# Altium integrated library Linear Technology Power Management System Supervisor, Monitor and Control.IntLib: 1611 symbols (part 40 of 100)
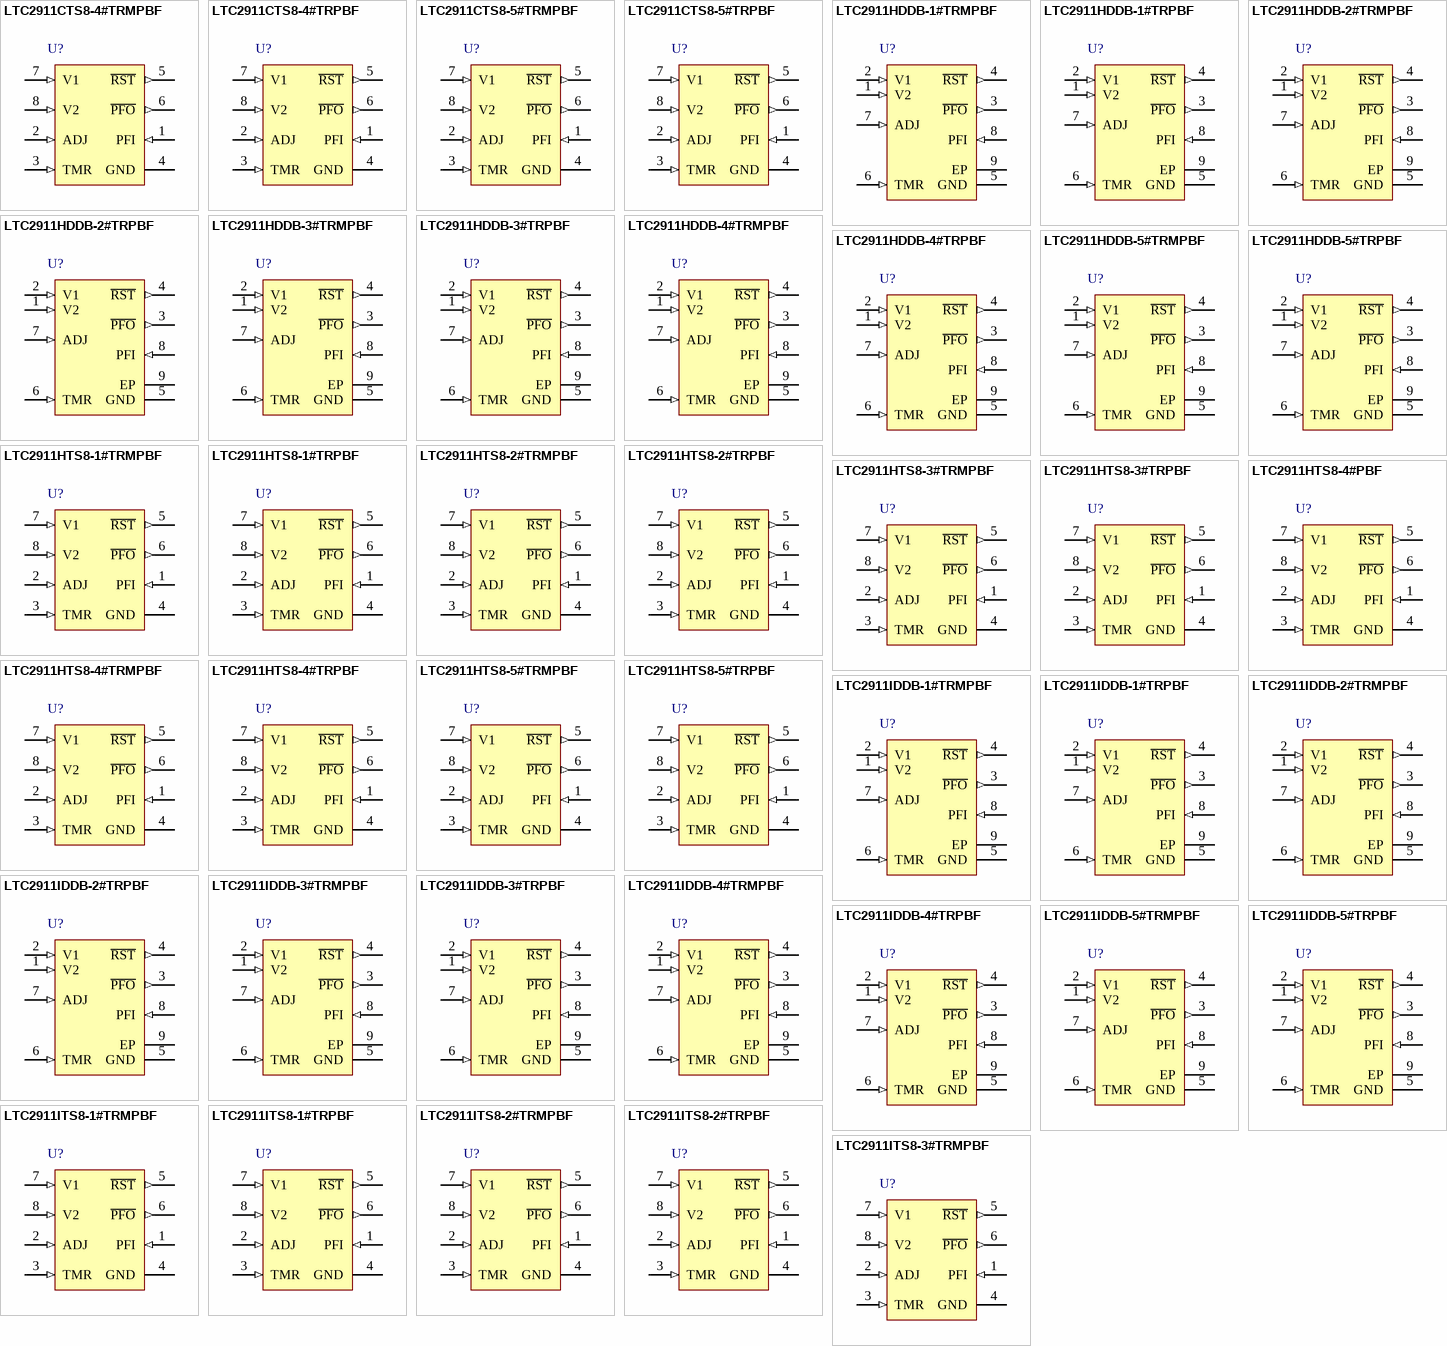
[diagram p84: symbols LTC2911CTS8-4#TRMPBF to LTC2911ITS8-3#TRMPBF]

## LTC2911HTS8-4#TRMPBF
designator U?
Triple Supply Monitor with Power Fail Comparator, 8-pin SOT23 (TS8-8), -40 to 125 degC, Pb-Free, Mini Tape and Reel; Manufacturer: Linear Technology; PartNumber: LTC2911HTS8-4#TRMPBF; Number of Supplies(#): 3; PackageVersion: Rev. A, 08/2010; PackageReference: TS8-8; PackageDescription: 8-Pin Plastic TSOT-23, Body 2.9 x 1.63 mm, Pitch 0.65 mm; Supplier 1: Digi-Key; Supplier Part Number 1: LTC2911HTS8-4#TRMPBF-ND; Packing: Mini Tape and Reel; RoHS: TRUE; Mounting Technology: Surface Mount; Code_JEDEC: MO-193; ComponentLink1Description: Manufacturer URL; ComponentLink1URL: http://www.linear.com/; ComponentLink2Description: Datasheet; ComponentLink2URL: http://cds.linear.com/docs/en/datasheet/2911f.pdf; ComponentLink3Description: Package Specification; ComponentLink3URL: http://cds.linear.com/docs/en/packaging/SOT_8_05-08-1637.pdf
footprint LT-TS8-8-TSOT-23_V (SOT23, 8-Leads, Body 2.9x1.75mm, Pitch 0.65mm)
pins: 1 PFI (in) "Power-Fail Voltage Monitor Input. Input to the powerfail comparator with a 500mV threshold at the falling edge and a 515mV threshold at the rising edge, giving a 3% hysteresis for noise rejection. Tie to V1 or GND if unused.", 2 ADJ (in) "Adjustable Voltage Monitor Input. Input to a voltage monitor comparator with a 0.5V nominal threshold. Tie to V1 if unused.", 3 TMR (in) "Reset Timeout Control. Attach an external capacitor, CTMR, to GND to set a reset timeout period of 9.4ms/nF. A low leakage ceramic capacitor is recommended for timer accuracy. A 2.2nF capacitor generates a 20ms timeout. (See Datasheet)", 4 GND (power) "Device Ground.", 5 ~{RST} (out) "Reset Logic Output. This pin asserts low when any of the V1, V2, or ADJ inputs are below their reset thresholds. Pulls high when all the monitored inputs are above their thresholds for longer than a timeout period. This pin (See Datasheet)", 6 ~{PFO} (out) "Power-Fail Logic Output. This pin asserts low when the PFI input voltage is below its threshold and goes high when the PFI input voltage is above its threshold. This pin provides a weak pull-up current to V1. This current is (See Datasheet)", 7 V1 (in) "3.3V Monitor and Power Supply Input. V1 is an accurate 3.3V, -5% undervoltage supply monitor. The internal VCC is generated from the greater of the voltages at the V1 and V2 inputs for the LTC2911 1/LTC2911?2/LTC2911- (See Datasheet)", 8 V2 (in) "Voltage Monitor and Power Supply Input. V2 is a -5% undervoltage supply monitor for a 5V, 2.5V, 1.8V or 1.2V supply for the LTC2911-1/LTC2911?2/LTC2911- 3/LTC2911?4 options, respectively. Because the internal VCC is (See Datasheet)"

## LTC2911HTS8-4#TRPBF
designator U?
Triple Supply Monitor with Power Fail Comparator, 8-pin SOT23 (TS8-8), -40 to 125 degC, Pb-Free, Tape and Reel; Manufacturer: Linear Technology; PartNumber: LTC2911HTS8-4#TRPBF; Number of Supplies(#): 3; PackageVersion: Rev. A, 08/2010; PackageReference: TS8-8; PackageDescription: 8-Pin Plastic TSOT-23, Body 2.9 x 1.63 mm, Pitch 0.65 mm; Supplier 1: Digi-Key; Supplier Part Number 1: LTC2911HTS8-4#TRPBF-ND; Packing: Tape and Reel; RoHS: TRUE; Mounting Technology: Surface Mount; Code_JEDEC: MO-193; ComponentLink1Description: Manufacturer URL; ComponentLink1URL: http://www.linear.com/; ComponentLink2Description: Datasheet; ComponentLink2URL: http://cds.linear.com/docs/en/datasheet/2911f.pdf; ComponentLink3Description: Package Specification; ComponentLink3URL: http://cds.linear.com/docs/en/packaging/SOT_8_05-08-1637.pdf
footprint LT-TS8-8-TSOT-23_V (SOT23, 8-Leads, Body 2.9x1.75mm, Pitch 0.65mm)
pins: 1 PFI (in) "Power-Fail Voltage Monitor Input. Input to the powerfail comparator with a 500mV threshold at the falling edge and a 515mV threshold at the rising edge, giving a 3% hysteresis for noise rejection. Tie to V1 or GND if unused.", 2 ADJ (in) "Adjustable Voltage Monitor Input. Input to a voltage monitor comparator with a 0.5V nominal threshold. Tie to V1 if unused.", 3 TMR (in) "Reset Timeout Control. Attach an external capacitor, CTMR, to GND to set a reset timeout period of 9.4ms/nF. A low leakage ceramic capacitor is recommended for timer accuracy. A 2.2nF capacitor generates a 20ms timeout. (See Datasheet)", 4 GND (power) "Device Ground.", 5 ~{RST} (out) "Reset Logic Output. This pin asserts low when any of the V1, V2, or ADJ inputs are below their reset thresholds. Pulls high when all the monitored inputs are above their thresholds for longer than a timeout period. This pin (See Datasheet)", 6 ~{PFO} (out) "Power-Fail Logic Output. This pin asserts low when the PFI input voltage is below its threshold and goes high when the PFI input voltage is above its threshold. This pin provides a weak pull-up current to V1. This current is (See Datasheet)", 7 V1 (in) "3.3V Monitor and Power Supply Input. V1 is an accurate 3.3V, -5% undervoltage supply monitor. The internal VCC is generated from the greater of the voltages at the V1 and V2 inputs for the LTC2911 1/LTC2911?2/LTC2911- (See Datasheet)", 8 V2 (in) "Voltage Monitor and Power Supply Input. V2 is a -5% undervoltage supply monitor for a 5V, 2.5V, 1.8V or 1.2V supply for the LTC2911-1/LTC2911?2/LTC2911- 3/LTC2911?4 options, respectively. Because the internal VCC is (See Datasheet)"

## LTC2911HTS8-5#TRMPBF
designator U?
Triple Supply Monitor with Power Fail Comparator, 8-pin SOT23 (TS8-8), -40 to 125 degC, Pb-Free, Mini Tape and Reel; Manufacturer: Linear Technology; PartNumber: LTC2911HTS8-5#TRMPBF; Number of Supplies(#): 3; PackageVersion: Rev. A, 08/2010; PackageReference: TS8-8; PackageDescription: 8-Pin Plastic TSOT-23, Body 2.9 x 1.63 mm, Pitch 0.65 mm; Supplier 1: Digi-Key; Supplier Part Number 1: LTC2911HTS8-5#TRMPBF-ND; Packing: Mini Tape and Reel; RoHS: TRUE; Mounting Technology: Surface Mount; Code_JEDEC: MO-193; ComponentLink1Description: Manufacturer URL; ComponentLink1URL: http://www.linear.com/; ComponentLink2Description: Datasheet; ComponentLink2URL: http://cds.linear.com/docs/en/datasheet/2911f.pdf; ComponentLink3Description: Package Specification; ComponentLink3URL: http://cds.linear.com/docs/en/packaging/SOT_8_05-08-1637.pdf
footprint LT-TS8-8-TSOT-23_V (SOT23, 8-Leads, Body 2.9x1.75mm, Pitch 0.65mm)
pins: 1 PFI (in) "Power-Fail Voltage Monitor Input. Input to the powerfail comparator with a 500mV threshold at the falling edge and a 515mV threshold at the rising edge, giving a 3% hysteresis for noise rejection. Tie to V1 or GND if unused.", 2 ADJ (in) "Adjustable Voltage Monitor Input. Input to a voltage monitor comparator with a 0.5V nominal threshold. Tie to V1 if unused.", 3 TMR (in) "Reset Timeout Control. Attach an external capacitor, CTMR, to GND to set a reset timeout period of 9.4ms/nF. A low leakage ceramic capacitor is recommended for timer accuracy. A 2.2nF capacitor generates a 20ms timeout. (See Datasheet)", 4 GND (power) "Device Ground.", 5 ~{RST} (out) "Reset Logic Output. This pin asserts low when any of the V1, V2, or ADJ inputs are below their reset thresholds. Pulls high when all the monitored inputs are above their thresholds for longer than a timeout period. This pin (See Datasheet)", 6 ~{PFO} (out) "Power-Fail Logic Output. This pin asserts low when the PFI input voltage is below its threshold and goes high when the PFI input voltage is above its threshold. This pin provides a weak pull-up current to V1. This current is (See Datasheet)", 7 V1 (in) "3.3V Monitor and Power Supply Input. V1 is an accurate 3.3V, -5% undervoltage supply monitor. The internal VCC is generated from the greater of the voltages at the V1 and V2 inputs for the LTC2911 1/LTC2911?2/LTC2911- (See Datasheet)", 8 V2 (in) "Voltage Monitor and Power Supply Input. V2 is a -5% undervoltage supply monitor for a 5V, 2.5V, 1.8V or 1.2V supply for the LTC2911-1/LTC2911?2/LTC2911- 3/LTC2911?4 options, respectively. Because the internal VCC is (See Datasheet)"

## LTC2911HTS8-5#TRPBF
designator U?
Triple Supply Monitor with Power Fail Comparator, 8-pin SOT23 (TS8-8), -40 to 125 degC, Pb-Free, Tape and Reel; Manufacturer: Linear Technology; PartNumber: LTC2911HTS8-5#TRPBF; Number of Supplies(#): 3; PackageVersion: Rev. A, 08/2010; PackageReference: TS8-8; PackageDescription: 8-Pin Plastic TSOT-23, Body 2.9 x 1.63 mm, Pitch 0.65 mm; Supplier 1: Digi-Key; Supplier Part Number 1: LTC2911HTS8-5#TRPBF-ND; Packing: Tape and Reel; RoHS: TRUE; Mounting Technology: Surface Mount; Code_JEDEC: MO-193; ComponentLink1Description: Manufacturer URL; ComponentLink1URL: http://www.linear.com/; ComponentLink2Description: Datasheet; ComponentLink2URL: http://cds.linear.com/docs/en/datasheet/2911f.pdf; ComponentLink3Description: Package Specification; ComponentLink3URL: http://cds.linear.com/docs/en/packaging/SOT_8_05-08-1637.pdf
footprint LT-TS8-8-TSOT-23_V (SOT23, 8-Leads, Body 2.9x1.75mm, Pitch 0.65mm)
pins: 1 PFI (in) "Power-Fail Voltage Monitor Input. Input to the powerfail comparator with a 500mV threshold at the falling edge and a 515mV threshold at the rising edge, giving a 3% hysteresis for noise rejection. Tie to V1 or GND if unused.", 2 ADJ (in) "Adjustable Voltage Monitor Input. Input to a voltage monitor comparator with a 0.5V nominal threshold. Tie to V1 if unused.", 3 TMR (in) "Reset Timeout Control. Attach an external capacitor, CTMR, to GND to set a reset timeout period of 9.4ms/nF. A low leakage ceramic capacitor is recommended for timer accuracy. A 2.2nF capacitor generates a 20ms timeout. (See Datasheet)", 4 GND (power) "Device Ground.", 5 ~{RST} (out) "Reset Logic Output. This pin asserts low when any of the V1, V2, or ADJ inputs are below their reset thresholds. Pulls high when all the monitored inputs are above their thresholds for longer than a timeout period. This pin (See Datasheet)", 6 ~{PFO} (out) "Power-Fail Logic Output. This pin asserts low when the PFI input voltage is below its threshold and goes high when the PFI input voltage is above its threshold. This pin provides a weak pull-up current to V1. This current is (See Datasheet)", 7 V1 (in) "3.3V Monitor and Power Supply Input. V1 is an accurate 3.3V, -5% undervoltage supply monitor. The internal VCC is generated from the greater of the voltages at the V1 and V2 inputs for the LTC2911 1/LTC2911?2/LTC2911- (See Datasheet)", 8 V2 (in) "Voltage Monitor and Power Supply Input. V2 is a -5% undervoltage supply monitor for a 5V, 2.5V, 1.8V or 1.2V supply for the LTC2911-1/LTC2911?2/LTC2911- 3/LTC2911?4 options, respectively. Because the internal VCC is (See Datasheet)"

## LTC2911IDDB-1#TRMPBF
designator U?
Triple Supply Monitor with Power Fail Comparator, 8-pin SON (DDB-8), -40 to 85 degC, Pb-Free, Mini Tape and Reel; Manufacturer: Linear Technology; PartNumber: LTC2911IDDB-1#TRMPBF; Number of Supplies(#): 3; PackageVersion: Rev. B, 06/2010; PackageReference: DDB-8; PackageDescription: 8-Pin Plastic DFN, Body 3 x 2 mm, Pitch 0.5 mm; Supplier 1: Digi-Key; Supplier Part Number 1: LTC2911IDDB-1#TRMPBF-ND; Packing: Mini Tape and Reel; RoHS: TRUE; Mounting Technology: Surface Mount; Code_JEDEC: MO-229; ComponentLink1Description: Manufacturer URL; ComponentLink1URL: http://www.linear.com/; ComponentLink2Description: Datasheet; ComponentLink2URL: http://cds.linear.com/docs/en/datasheet/2911f.pdf; ComponentLink3Description: Package Specification; ComponentLink3URL: http://cds.linear.com/docs/en/packaging/DFN_8_05-08-1702.pdf
footprint LT-DDB-8_V (SON, 8-Leads, Body 3x2mm, Pitch 0.5mm, Thermal Pad 2.2x0.61mm)
pins: 1 V2 (in) "Voltage Monitor and Power Supply Input. V2 is a -5% undervoltage supply monitor for a 5V, 2.5V, 1.8V or 1.2V supply for the LTC2911-1/LTC2911-2/LTC2911- 3/LTC2911-4 options, respectively. Because the internal VCC is (See Datasheet)", 2 V1 (in) "3.3V Monitor and Power Supply Input. V1 is an accurate 3.3V, -5% undervoltage supply monitor. The internal VCC is generated from the greater of the voltages at the V1 and V2 inputs for the LTC2911-1/LTC2911-2/LTC2911- (See Datasheet)", 3 ~{PFO} (out) "Power-Fail Logic Output. This pin asserts low when the PFI input voltage is below its threshold and goes high when the PFI input voltage is above its threshold. This pin provides a weak pull-up current to V1. This current is (See Datasheet)", 4 ~{RST} (out) "Reset Logic Output. This pin asserts low when any of the V1, V2, or ADJ inputs are below their reset thresholds. Pulls high when all the monitored inputs are above their thresholds for longer than a timeout period. This pin (See Datasheet)", 5 GND (power) "Device Ground.", 6 TMR (in) "Reset Timeout Control. Attach an external capacitor, CTMR, to GND to set a reset timeout period of 9.4ms/nF. A low leakage ceramic capacitor is recommended for timer accuracy. A 2.2nF capacitor generates a 20ms timeout. (See Datasheet)", 7 ADJ (in) "Adjustable Voltage Monitor Input. Input to a voltage monitor comparator with a 0.5V nominal threshold. Tie to V1 if unused.", 8 PFI (in) "Power-Fail Voltage Monitor Input. Input to the powerfail comparator with a 500mV threshold at the falling edge and a 515mV threshold at the rising edge, giving a 3% hysteresis for noise rejection. Tie to V1 or GND if unused.", 9 EP (power) "Exposed pad may be left open or connected to device ground."

## LTC2911IDDB-1#TRPBF
designator U?
Triple Supply Monitor with Power Fail Comparator, 8-pin SON (DDB-8), -40 to 85 degC, Pb-Free, Tape and Reel; Manufacturer: Linear Technology; PartNumber: LTC2911IDDB-1#TRPBF; Number of Supplies(#): 3; PackageVersion: Rev. B, 06/2010; PackageReference: DDB-8; PackageDescription: 8-Pin Plastic DFN, Body 3 x 2 mm, Pitch 0.5 mm; Supplier 1: Digi-Key; Supplier Part Number 1: LTC2911IDDB-1#TRPBF-ND; Packing: Tape and Reel; RoHS: TRUE; Mounting Technology: Surface Mount; Code_JEDEC: MO-229; ComponentLink1Description: Manufacturer URL; ComponentLink1URL: http://www.linear.com/; ComponentLink2Description: Datasheet; ComponentLink2URL: http://cds.linear.com/docs/en/datasheet/2911f.pdf; ComponentLink3Description: Package Specification; ComponentLink3URL: http://cds.linear.com/docs/en/packaging/DFN_8_05-08-1702.pdf
footprint LT-DDB-8_V (SON, 8-Leads, Body 3x2mm, Pitch 0.5mm, Thermal Pad 2.2x0.61mm)
pins: 1 V2 (in) "Voltage Monitor and Power Supply Input. V2 is a -5% undervoltage supply monitor for a 5V, 2.5V, 1.8V or 1.2V supply for the LTC2911-1/LTC2911-2/LTC2911- 3/LTC2911-4 options, respectively. Because the internal VCC is (See Datasheet)", 2 V1 (in) "3.3V Monitor and Power Supply Input. V1 is an accurate 3.3V, -5% undervoltage supply monitor. The internal VCC is generated from the greater of the voltages at the V1 and V2 inputs for the LTC2911-1/LTC2911-2/LTC2911- (See Datasheet)", 3 ~{PFO} (out) "Power-Fail Logic Output. This pin asserts low when the PFI input voltage is below its threshold and goes high when the PFI input voltage is above its threshold. This pin provides a weak pull-up current to V1. This current is (See Datasheet)", 4 ~{RST} (out) "Reset Logic Output. This pin asserts low when any of the V1, V2, or ADJ inputs are below their reset thresholds. Pulls high when all the monitored inputs are above their thresholds for longer than a timeout period. This pin (See Datasheet)", 5 GND (power) "Device Ground.", 6 TMR (in) "Reset Timeout Control. Attach an external capacitor, CTMR, to GND to set a reset timeout period of 9.4ms/nF. A low leakage ceramic capacitor is recommended for timer accuracy. A 2.2nF capacitor generates a 20ms timeout. (See Datasheet)", 7 ADJ (in) "Adjustable Voltage Monitor Input. Input to a voltage monitor comparator with a 0.5V nominal threshold. Tie to V1 if unused.", 8 PFI (in) "Power-Fail Voltage Monitor Input. Input to the powerfail comparator with a 500mV threshold at the falling edge and a 515mV threshold at the rising edge, giving a 3% hysteresis for noise rejection. Tie to V1 or GND if unused.", 9 EP (power) "Exposed pad may be left open or connected to device ground."

## LTC2911IDDB-2#TRMPBF
designator U?
Triple Supply Monitor with Power Fail Comparator, 8-pin SON (DDB-8), -40 to 85 degC, Pb-Free, Mini Tape and Reel; Manufacturer: Linear Technology; PartNumber: LTC2911IDDB-2#TRMPBF; Number of Supplies(#): 3; PackageVersion: Rev. B, 06/2010; PackageReference: DDB-8; PackageDescription: 8-Pin Plastic DFN, Body 3 x 2 mm, Pitch 0.5 mm; Supplier 1: Digi-Key; Supplier Part Number 1: LTC2911IDDB-2#TRMPBF-ND; Packing: Mini Tape and Reel; RoHS: TRUE; Mounting Technology: Surface Mount; Code_JEDEC: MO-229; ComponentLink1Description: Manufacturer URL; ComponentLink1URL: http://www.linear.com/; ComponentLink2Description: Datasheet; ComponentLink2URL: http://cds.linear.com/docs/en/datasheet/2911f.pdf; ComponentLink3Description: Package Specification; ComponentLink3URL: http://cds.linear.com/docs/en/packaging/DFN_8_05-08-1702.pdf
footprint LT-DDB-8_V (SON, 8-Leads, Body 3x2mm, Pitch 0.5mm, Thermal Pad 2.2x0.61mm)
pins: 1 V2 (in) "Voltage Monitor and Power Supply Input. V2 is a -5% undervoltage supply monitor for a 5V, 2.5V, 1.8V or 1.2V supply for the LTC2911-1/LTC2911-2/LTC2911- 3/LTC2911-4 options, respectively. Because the internal VCC is (See Datasheet)", 2 V1 (in) "3.3V Monitor and Power Supply Input. V1 is an accurate 3.3V, -5% undervoltage supply monitor. The internal VCC is generated from the greater of the voltages at the V1 and V2 inputs for the LTC2911-1/LTC2911-2/LTC2911- (See Datasheet)", 3 ~{PFO} (out) "Power-Fail Logic Output. This pin asserts low when the PFI input voltage is below its threshold and goes high when the PFI input voltage is above its threshold. This pin provides a weak pull-up current to V1. This current is (See Datasheet)", 4 ~{RST} (out) "Reset Logic Output. This pin asserts low when any of the V1, V2, or ADJ inputs are below their reset thresholds. Pulls high when all the monitored inputs are above their thresholds for longer than a timeout period. This pin (See Datasheet)", 5 GND (power) "Device Ground.", 6 TMR (in) "Reset Timeout Control. Attach an external capacitor, CTMR, to GND to set a reset timeout period of 9.4ms/nF. A low leakage ceramic capacitor is recommended for timer accuracy. A 2.2nF capacitor generates a 20ms timeout. (See Datasheet)", 7 ADJ (in) "Adjustable Voltage Monitor Input. Input to a voltage monitor comparator with a 0.5V nominal threshold. Tie to V1 if unused.", 8 PFI (in) "Power-Fail Voltage Monitor Input. Input to the powerfail comparator with a 500mV threshold at the falling edge and a 515mV threshold at the rising edge, giving a 3% hysteresis for noise rejection. Tie to V1 or GND if unused.", 9 EP (power) "Exposed pad may be left open or connected to device ground."

## LTC2911IDDB-2#TRPBF
designator U?
Triple Supply Monitor with Power Fail Comparator, 8-pin SON (DDB-8), -40 to 85 degC, Pb-Free, Tape and Reel; Manufacturer: Linear Technology; PartNumber: LTC2911IDDB-2#TRPBF; Number of Supplies(#): 3; PackageVersion: Rev. B, 06/2010; PackageReference: DDB-8; PackageDescription: 8-Pin Plastic DFN, Body 3 x 2 mm, Pitch 0.5 mm; Supplier 1: Digi-Key; Supplier Part Number 1: LTC2911IDDB-2#TRPBF-ND; Packing: Tape and Reel; RoHS: TRUE; Mounting Technology: Surface Mount; Code_JEDEC: MO-229; ComponentLink1Description: Manufacturer URL; ComponentLink1URL: http://www.linear.com/; ComponentLink2Description: Datasheet; ComponentLink2URL: http://cds.linear.com/docs/en/datasheet/2911f.pdf; ComponentLink3Description: Package Specification; ComponentLink3URL: http://cds.linear.com/docs/en/packaging/DFN_8_05-08-1702.pdf
footprint LT-DDB-8_V (SON, 8-Leads, Body 3x2mm, Pitch 0.5mm, Thermal Pad 2.2x0.61mm)
pins: 1 V2 (in) "Voltage Monitor and Power Supply Input. V2 is a -5% undervoltage supply monitor for a 5V, 2.5V, 1.8V or 1.2V supply for the LTC2911-1/LTC2911-2/LTC2911- 3/LTC2911-4 options, respectively. Because the internal VCC is (See Datasheet)", 2 V1 (in) "3.3V Monitor and Power Supply Input. V1 is an accurate 3.3V, -5% undervoltage supply monitor. The internal VCC is generated from the greater of the voltages at the V1 and V2 inputs for the LTC2911-1/LTC2911-2/LTC2911- (See Datasheet)", 3 ~{PFO} (out) "Power-Fail Logic Output. This pin asserts low when the PFI input voltage is below its threshold and goes high when the PFI input voltage is above its threshold. This pin provides a weak pull-up current to V1. This current is (See Datasheet)", 4 ~{RST} (out) "Reset Logic Output. This pin asserts low when any of the V1, V2, or ADJ inputs are below their reset thresholds. Pulls high when all the monitored inputs are above their thresholds for longer than a timeout period. This pin (See Datasheet)", 5 GND (power) "Device Ground.", 6 TMR (in) "Reset Timeout Control. Attach an external capacitor, CTMR, to GND to set a reset timeout period of 9.4ms/nF. A low leakage ceramic capacitor is recommended for timer accuracy. A 2.2nF capacitor generates a 20ms timeout. (See Datasheet)", 7 ADJ (in) "Adjustable Voltage Monitor Input. Input to a voltage monitor comparator with a 0.5V nominal threshold. Tie to V1 if unused.", 8 PFI (in) "Power-Fail Voltage Monitor Input. Input to the powerfail comparator with a 500mV threshold at the falling edge and a 515mV threshold at the rising edge, giving a 3% hysteresis for noise rejection. Tie to V1 or GND if unused.", 9 EP (power) "Exposed pad may be left open or connected to device ground."

## LTC2911IDDB-3#TRMPBF
designator U?
Triple Supply Monitor with Power Fail Comparator, 8-pin SON (DDB-8), -40 to 85 degC, Pb-Free, Mini Tape and Reel; Manufacturer: Linear Technology; PartNumber: LTC2911IDDB-3#TRMPBF; Number of Supplies(#): 3; PackageVersion: Rev. B, 06/2010; PackageReference: DDB-8; PackageDescription: 8-Pin Plastic DFN, Body 3 x 2 mm, Pitch 0.5 mm; Supplier 1: Digi-Key; Supplier Part Number 1: LTC2911IDDB-3#TRMPBF-ND; Packing: Mini Tape and Reel; RoHS: TRUE; Mounting Technology: Surface Mount; Code_JEDEC: MO-229; ComponentLink1Description: Manufacturer URL; ComponentLink1URL: http://www.linear.com/; ComponentLink2Description: Datasheet; ComponentLink2URL: http://cds.linear.com/docs/en/datasheet/2911f.pdf; ComponentLink3Description: Package Specification; ComponentLink3URL: http://cds.linear.com/docs/en/packaging/DFN_8_05-08-1702.pdf
footprint LT-DDB-8_V (SON, 8-Leads, Body 3x2mm, Pitch 0.5mm, Thermal Pad 2.2x0.61mm)
pins: 1 V2 (in) "Voltage Monitor and Power Supply Input. V2 is a -5% undervoltage supply monitor for a 5V, 2.5V, 1.8V or 1.2V supply for the LTC2911-1/LTC2911-2/LTC2911- 3/LTC2911-4 options, respectively. Because the internal VCC is (See Datasheet)", 2 V1 (in) "3.3V Monitor and Power Supply Input. V1 is an accurate 3.3V, -5% undervoltage supply monitor. The internal VCC is generated from the greater of the voltages at the V1 and V2 inputs for the LTC2911-1/LTC2911-2/LTC2911- (See Datasheet)", 3 ~{PFO} (out) "Power-Fail Logic Output. This pin asserts low when the PFI input voltage is below its threshold and goes high when the PFI input voltage is above its threshold. This pin provides a weak pull-up current to V1. This current is (See Datasheet)", 4 ~{RST} (out) "Reset Logic Output. This pin asserts low when any of the V1, V2, or ADJ inputs are below their reset thresholds. Pulls high when all the monitored inputs are above their thresholds for longer than a timeout period. This pin (See Datasheet)", 5 GND (power) "Device Ground.", 6 TMR (in) "Reset Timeout Control. Attach an external capacitor, CTMR, to GND to set a reset timeout period of 9.4ms/nF. A low leakage ceramic capacitor is recommended for timer accuracy. A 2.2nF capacitor generates a 20ms timeout. (See Datasheet)", 7 ADJ (in) "Adjustable Voltage Monitor Input. Input to a voltage monitor comparator with a 0.5V nominal threshold. Tie to V1 if unused.", 8 PFI (in) "Power-Fail Voltage Monitor Input. Input to the powerfail comparator with a 500mV threshold at the falling edge and a 515mV threshold at the rising edge, giving a 3% hysteresis for noise rejection. Tie to V1 or GND if unused.", 9 EP (power) "Exposed pad may be left open or connected to device ground."

## LTC2911IDDB-3#TRPBF
designator U?
Triple Supply Monitor with Power Fail Comparator, 8-pin SON (DDB-8), -40 to 85 degC, Pb-Free, Tape and Reel; Manufacturer: Linear Technology; PartNumber: LTC2911IDDB-3#TRPBF; Number of Supplies(#): 3; PackageVersion: Rev. B, 06/2010; PackageReference: DDB-8; PackageDescription: 8-Pin Plastic DFN, Body 3 x 2 mm, Pitch 0.5 mm; Supplier 1: Digi-Key; Supplier Part Number 1: LTC2911IDDB-3#TRPBF-ND; Packing: Tape and Reel; RoHS: TRUE; Mounting Technology: Surface Mount; Code_JEDEC: MO-229; ComponentLink1Description: Manufacturer URL; ComponentLink1URL: http://www.linear.com/; ComponentLink2Description: Datasheet; ComponentLink2URL: http://cds.linear.com/docs/en/datasheet/2911f.pdf; ComponentLink3Description: Package Specification; ComponentLink3URL: http://cds.linear.com/docs/en/packaging/DFN_8_05-08-1702.pdf
footprint LT-DDB-8_V (SON, 8-Leads, Body 3x2mm, Pitch 0.5mm, Thermal Pad 2.2x0.61mm)
pins: 1 V2 (in) "Voltage Monitor and Power Supply Input. V2 is a -5% undervoltage supply monitor for a 5V, 2.5V, 1.8V or 1.2V supply for the LTC2911-1/LTC2911-2/LTC2911- 3/LTC2911-4 options, respectively. Because the internal VCC is (See Datasheet)", 2 V1 (in) "3.3V Monitor and Power Supply Input. V1 is an accurate 3.3V, -5% undervoltage supply monitor. The internal VCC is generated from the greater of the voltages at the V1 and V2 inputs for the LTC2911-1/LTC2911-2/LTC2911- (See Datasheet)", 3 ~{PFO} (out) "Power-Fail Logic Output. This pin asserts low when the PFI input voltage is below its threshold and goes high when the PFI input voltage is above its threshold. This pin provides a weak pull-up current to V1. This current is (See Datasheet)", 4 ~{RST} (out) "Reset Logic Output. This pin asserts low when any of the V1, V2, or ADJ inputs are below their reset thresholds. Pulls high when all the monitored inputs are above their thresholds for longer than a timeout period. This pin (See Datasheet)", 5 GND (power) "Device Ground.", 6 TMR (in) "Reset Timeout Control. Attach an external capacitor, CTMR, to GND to set a reset timeout period of 9.4ms/nF. A low leakage ceramic capacitor is recommended for timer accuracy. A 2.2nF capacitor generates a 20ms timeout. (See Datasheet)", 7 ADJ (in) "Adjustable Voltage Monitor Input. Input to a voltage monitor comparator with a 0.5V nominal threshold. Tie to V1 if unused.", 8 PFI (in) "Power-Fail Voltage Monitor Input. Input to the powerfail comparator with a 500mV threshold at the falling edge and a 515mV threshold at the rising edge, giving a 3% hysteresis for noise rejection. Tie to V1 or GND if unused.", 9 EP (power) "Exposed pad may be left open or connected to device ground."

## LTC2911IDDB-4#TRMPBF
designator U?
Triple Supply Monitor with Power Fail Comparator, 8-pin SON (DDB-8), -40 to 85 degC, Pb-Free, Mini Tape and Reel; Manufacturer: Linear Technology; PartNumber: LTC2911IDDB-4#TRMPBF; Number of Supplies(#): 3; PackageVersion: Rev. B, 06/2010; PackageReference: DDB-8; PackageDescription: 8-Pin Plastic DFN, Body 3 x 2 mm, Pitch 0.5 mm; Supplier 1: Digi-Key; Supplier Part Number 1: LTC2911IDDB-4#TRMPBF-ND; Packing: Mini Tape and Reel; RoHS: TRUE; Mounting Technology: Surface Mount; Code_JEDEC: MO-229; ComponentLink1Description: Manufacturer URL; ComponentLink1URL: http://www.linear.com/; ComponentLink2Description: Datasheet; ComponentLink2URL: http://cds.linear.com/docs/en/datasheet/2911f.pdf; ComponentLink3Description: Package Specification; ComponentLink3URL: http://cds.linear.com/docs/en/packaging/DFN_8_05-08-1702.pdf
footprint LT-DDB-8_V (SON, 8-Leads, Body 3x2mm, Pitch 0.5mm, Thermal Pad 2.2x0.61mm)
pins: 1 V2 (in) "Voltage Monitor and Power Supply Input. V2 is a -5% undervoltage supply monitor for a 5V, 2.5V, 1.8V or 1.2V supply for the LTC2911-1/LTC2911-2/LTC2911- 3/LTC2911-4 options, respectively. Because the internal VCC is (See Datasheet)", 2 V1 (in) "3.3V Monitor and Power Supply Input. V1 is an accurate 3.3V, -5% undervoltage supply monitor. The internal VCC is generated from the greater of the voltages at the V1 and V2 inputs for the LTC2911-1/LTC2911-2/LTC2911- (See Datasheet)", 3 ~{PFO} (out) "Power-Fail Logic Output. This pin asserts low when the PFI input voltage is below its threshold and goes high when the PFI input voltage is above its threshold. This pin provides a weak pull-up current to V1. This current is (See Datasheet)", 4 ~{RST} (out) "Reset Logic Output. This pin asserts low when any of the V1, V2, or ADJ inputs are below their reset thresholds. Pulls high when all the monitored inputs are above their thresholds for longer than a timeout period. This pin (See Datasheet)", 5 GND (power) "Device Ground.", 6 TMR (in) "Reset Timeout Control. Attach an external capacitor, CTMR, to GND to set a reset timeout period of 9.4ms/nF. A low leakage ceramic capacitor is recommended for timer accuracy. A 2.2nF capacitor generates a 20ms timeout. (See Datasheet)", 7 ADJ (in) "Adjustable Voltage Monitor Input. Input to a voltage monitor comparator with a 0.5V nominal threshold. Tie to V1 if unused.", 8 PFI (in) "Power-Fail Voltage Monitor Input. Input to the powerfail comparator with a 500mV threshold at the falling edge and a 515mV threshold at the rising edge, giving a 3% hysteresis for noise rejection. Tie to V1 or GND if unused.", 9 EP (power) "Exposed pad may be left open or connected to device ground."

## LTC2911IDDB-4#TRPBF
designator U?
Triple Supply Monitor with Power Fail Comparator, 8-pin SON (DDB-8), -40 to 85 degC, Pb-Free, Tape and Reel; Manufacturer: Linear Technology; PartNumber: LTC2911IDDB-4#TRPBF; Number of Supplies(#): 3; PackageVersion: Rev. B, 06/2010; PackageReference: DDB-8; PackageDescription: 8-Pin Plastic DFN, Body 3 x 2 mm, Pitch 0.5 mm; Supplier 1: Digi-Key; Supplier Part Number 1: LTC2911IDDB-4#TRPBF-ND; Packing: Tape and Reel; RoHS: TRUE; Mounting Technology: Surface Mount; Code_JEDEC: MO-229; ComponentLink1Description: Manufacturer URL; ComponentLink1URL: http://www.linear.com/; ComponentLink2Description: Datasheet; ComponentLink2URL: http://cds.linear.com/docs/en/datasheet/2911f.pdf; ComponentLink3Description: Package Specification; ComponentLink3URL: http://cds.linear.com/docs/en/packaging/DFN_8_05-08-1702.pdf
footprint LT-DDB-8_V (SON, 8-Leads, Body 3x2mm, Pitch 0.5mm, Thermal Pad 2.2x0.61mm)
pins: 1 V2 (in) "Voltage Monitor and Power Supply Input. V2 is a -5% undervoltage supply monitor for a 5V, 2.5V, 1.8V or 1.2V supply for the LTC2911-1/LTC2911-2/LTC2911- 3/LTC2911-4 options, respectively. Because the internal VCC is (See Datasheet)", 2 V1 (in) "3.3V Monitor and Power Supply Input. V1 is an accurate 3.3V, -5% undervoltage supply monitor. The internal VCC is generated from the greater of the voltages at the V1 and V2 inputs for the LTC2911-1/LTC2911-2/LTC2911- (See Datasheet)", 3 ~{PFO} (out) "Power-Fail Logic Output. This pin asserts low when the PFI input voltage is below its threshold and goes high when the PFI input voltage is above its threshold. This pin provides a weak pull-up current to V1. This current is (See Datasheet)", 4 ~{RST} (out) "Reset Logic Output. This pin asserts low when any of the V1, V2, or ADJ inputs are below their reset thresholds. Pulls high when all the monitored inputs are above their thresholds for longer than a timeout period. This pin (See Datasheet)", 5 GND (power) "Device Ground.", 6 TMR (in) "Reset Timeout Control. Attach an external capacitor, CTMR, to GND to set a reset timeout period of 9.4ms/nF. A low leakage ceramic capacitor is recommended for timer accuracy. A 2.2nF capacitor generates a 20ms timeout. (See Datasheet)", 7 ADJ (in) "Adjustable Voltage Monitor Input. Input to a voltage monitor comparator with a 0.5V nominal threshold. Tie to V1 if unused.", 8 PFI (in) "Power-Fail Voltage Monitor Input. Input to the powerfail comparator with a 500mV threshold at the falling edge and a 515mV threshold at the rising edge, giving a 3% hysteresis for noise rejection. Tie to V1 or GND if unused.", 9 EP (power) "Exposed pad may be left open or connected to device ground."

## LTC2911IDDB-5#TRMPBF
designator U?
Triple Supply Monitor with Power Fail Comparator, 8-pin SON (DDB-8), -40 to 85 degC, Pb-Free, Mini Tape and Reel; Manufacturer: Linear Technology; PartNumber: LTC2911IDDB-5#TRMPBF; Number of Supplies(#): 3; PackageVersion: Rev. B, 06/2010; PackageReference: DDB-8; PackageDescription: 8-Pin Plastic DFN, Body 3 x 2 mm, Pitch 0.5 mm; Supplier 1: Digi-Key; Supplier Part Number 1: LTC2911IDDB-5#TRMPBF-ND; Packing: Mini Tape and Reel; RoHS: TRUE; Mounting Technology: Surface Mount; Code_JEDEC: MO-229; ComponentLink1Description: Manufacturer URL; ComponentLink1URL: http://www.linear.com/; ComponentLink2Description: Datasheet; ComponentLink2URL: http://cds.linear.com/docs/en/datasheet/2911f.pdf; ComponentLink3Description: Package Specification; ComponentLink3URL: http://cds.linear.com/docs/en/packaging/DFN_8_05-08-1702.pdf
footprint LT-DDB-8_V (SON, 8-Leads, Body 3x2mm, Pitch 0.5mm, Thermal Pad 2.2x0.61mm)
pins: 1 V2 (in) "Voltage Monitor and Power Supply Input. V2 is a -5% undervoltage supply monitor for a 5V, 2.5V, 1.8V or 1.2V supply for the LTC2911-1/LTC2911-2/LTC2911- 3/LTC2911-4 options, respectively. Because the internal VCC is (See Datasheet)", 2 V1 (in) "3.3V Monitor and Power Supply Input. V1 is an accurate 3.3V, -5% undervoltage supply monitor. The internal VCC is generated from the greater of the voltages at the V1 and V2 inputs for the LTC2911-1/LTC2911-2/LTC2911- (See Datasheet)", 3 ~{PFO} (out) "Power-Fail Logic Output. This pin asserts low when the PFI input voltage is below its threshold and goes high when the PFI input voltage is above its threshold. This pin provides a weak pull-up current to V1. This current is (See Datasheet)", 4 ~{RST} (out) "Reset Logic Output. This pin asserts low when any of the V1, V2, or ADJ inputs are below their reset thresholds. Pulls high when all the monitored inputs are above their thresholds for longer than a timeout period. This pin (See Datasheet)", 5 GND (power) "Device Ground.", 6 TMR (in) "Reset Timeout Control. Attach an external capacitor, CTMR, to GND to set a reset timeout period of 9.4ms/nF. A low leakage ceramic capacitor is recommended for timer accuracy. A 2.2nF capacitor generates a 20ms timeout. (See Datasheet)", 7 ADJ (in) "Adjustable Voltage Monitor Input. Input to a voltage monitor comparator with a 0.5V nominal threshold. Tie to V1 if unused.", 8 PFI (in) "Power-Fail Voltage Monitor Input. Input to the powerfail comparator with a 500mV threshold at the falling edge and a 515mV threshold at the rising edge, giving a 3% hysteresis for noise rejection. Tie to V1 or GND if unused.", 9 EP (power) "Exposed pad may be left open or connected to device ground."

## LTC2911IDDB-5#TRPBF
designator U?
Triple Supply Monitor with Power Fail Comparator, 8-pin SON (DDB-8), -40 to 85 degC, Pb-Free, Tape and Reel; Manufacturer: Linear Technology; PartNumber: LTC2911IDDB-5#TRPBF; Number of Supplies(#): 3; PackageVersion: Rev. B, 06/2010; PackageReference: DDB-8; PackageDescription: 8-Pin Plastic DFN, Body 3 x 2 mm, Pitch 0.5 mm; Supplier 1: Digi-Key; Supplier Part Number 1: LTC2911IDDB-5#TRPBF-ND; Packing: Tape and Reel; RoHS: TRUE; Mounting Technology: Surface Mount; Code_JEDEC: MO-229; ComponentLink1Description: Manufacturer URL; ComponentLink1URL: http://www.linear.com/; ComponentLink2Description: Datasheet; ComponentLink2URL: http://cds.linear.com/docs/en/datasheet/2911f.pdf; ComponentLink3Description: Package Specification; ComponentLink3URL: http://cds.linear.com/docs/en/packaging/DFN_8_05-08-1702.pdf
footprint LT-DDB-8_V (SON, 8-Leads, Body 3x2mm, Pitch 0.5mm, Thermal Pad 2.2x0.61mm)
pins: 1 V2 (in) "Voltage Monitor and Power Supply Input. V2 is a -5% undervoltage supply monitor for a 5V, 2.5V, 1.8V or 1.2V supply for the LTC2911-1/LTC2911-2/LTC2911- 3/LTC2911-4 options, respectively. Because the internal VCC is (See Datasheet)", 2 V1 (in) "3.3V Monitor and Power Supply Input. V1 is an accurate 3.3V, -5% undervoltage supply monitor. The internal VCC is generated from the greater of the voltages at the V1 and V2 inputs for the LTC2911-1/LTC2911-2/LTC2911- (See Datasheet)", 3 ~{PFO} (out) "Power-Fail Logic Output. This pin asserts low when the PFI input voltage is below its threshold and goes high when the PFI input voltage is above its threshold. This pin provides a weak pull-up current to V1. This current is (See Datasheet)", 4 ~{RST} (out) "Reset Logic Output. This pin asserts low when any of the V1, V2, or ADJ inputs are below their reset thresholds. Pulls high when all the monitored inputs are above their thresholds for longer than a timeout period. This pin (See Datasheet)", 5 GND (power) "Device Ground.", 6 TMR (in) "Reset Timeout Control. Attach an external capacitor, CTMR, to GND to set a reset timeout period of 9.4ms/nF. A low leakage ceramic capacitor is recommended for timer accuracy. A 2.2nF capacitor generates a 20ms timeout. (See Datasheet)", 7 ADJ (in) "Adjustable Voltage Monitor Input. Input to a voltage monitor comparator with a 0.5V nominal threshold. Tie to V1 if unused.", 8 PFI (in) "Power-Fail Voltage Monitor Input. Input to the powerfail comparator with a 500mV threshold at the falling edge and a 515mV threshold at the rising edge, giving a 3% hysteresis for noise rejection. Tie to V1 or GND if unused.", 9 EP (power) "Exposed pad may be left open or connected to device ground."

## LTC2911ITS8-1#TRMPBF
designator U?
Triple Supply Monitor with Power Fail Comparator, 8-pin SOT23 (TS8-8), -40 to 85 degC, Pb-Free, Mini Tape and Reel; Manufacturer: Linear Technology; PartNumber: LTC2911ITS8-1#TRMPBF; Number of Supplies(#): 3; PackageVersion: Rev. A, 08/2010; PackageReference: TS8-8; PackageDescription: 8-Pin Plastic TSOT-23, Body 2.9 x 1.63 mm, Pitch 0.65 mm; Supplier 1: Digi-Key; Supplier Part Number 1: LTC2911ITS8-1#TRMPBF-ND; Packing: Mini Tape and Reel; RoHS: TRUE; Mounting Technology: Surface Mount; Code_JEDEC: MO-193; ComponentLink1Description: Manufacturer URL; ComponentLink1URL: http://www.linear.com/; ComponentLink2Description: Datasheet; ComponentLink2URL: http://cds.linear.com/docs/en/datasheet/2911f.pdf; ComponentLink3Description: Package Specification; ComponentLink3URL: http://cds.linear.com/docs/en/packaging/SOT_8_05-08-1637.pdf
footprint LT-TS8-8-TSOT-23_V (SOT23, 8-Leads, Body 2.9x1.75mm, Pitch 0.65mm)
pins: 1 PFI (in) "Power-Fail Voltage Monitor Input. Input to the powerfail comparator with a 500mV threshold at the falling edge and a 515mV threshold at the rising edge, giving a 3% hysteresis for noise rejection. Tie to V1 or GND if unused.", 2 ADJ (in) "Adjustable Voltage Monitor Input. Input to a voltage monitor comparator with a 0.5V nominal threshold. Tie to V1 if unused.", 3 TMR (in) "Reset Timeout Control. Attach an external capacitor, CTMR, to GND to set a reset timeout period of 9.4ms/nF. A low leakage ceramic capacitor is recommended for timer accuracy. A 2.2nF capacitor generates a 20ms timeout. (See Datasheet)", 4 GND (power) "Device Ground", 5 ~{RST} (out) "Reset Logic Output. This pin asserts low when any of the V1, V2, or ADJ inputs are below their reset thresholds. Pulls high when all the monitored inputs are above their thresholds for longer than a timeout period. This pin (See Datasheet)", 6 ~{PFO} (out) "Power-Fail Logic Output. This pin asserts low when the PFI input voltage is below its threshold and goes high when the PFI input voltage is above its threshold. This pin provides a weak pull-up current to V1. This current is (See Datasheet)", 7 V1 (in) "3.3V Monitor and Power Supply Input. V1 is an accurate 3.3V, -5% undervoltage supply monitor. The internal VCC is generated from the greater of the voltages at the V1 and V2 inputs for the LTC2911-1/LTC2911?2/LTC2911(See Datasheet)", 8 V2 (in) "Voltage Monitor and Power Supply Input. V2 is a -5% undervoltage supply monitor for a 5V, 2.5V, 1.8V or 1.2V supply for the LTC2911-1/LTC2911?2/LTC2911-3/LTC2911?4 options, respectively. Because the internal VCC(See Datasheet)"

## LTC2911ITS8-1#TRPBF
designator U?
Triple Supply Monitor with Power Fail Comparator, 8-pin SOT23 (TS8-8), -40 to 85 degC, Pb-Free, Tape and Reel; Manufacturer: Linear Technology; PartNumber: LTC2911ITS8-1#TRPBF; Number of Supplies(#): 3; PackageVersion: Rev. A, 08/2010; PackageReference: TS8-8; PackageDescription: 8-Pin Plastic TSOT-23, Body 2.9 x 1.63 mm, Pitch 0.65 mm; Supplier 1: Digi-Key; Supplier Part Number 1: LTC2911ITS8-1#TRPBF-ND; Packing: Tape and Reel; RoHS: TRUE; Mounting Technology: Surface Mount; Code_JEDEC: MO-193; ComponentLink1Description: Manufacturer URL; ComponentLink1URL: http://www.linear.com/; ComponentLink2Description: Datasheet; ComponentLink2URL: http://cds.linear.com/docs/en/datasheet/2911f.pdf; ComponentLink3Description: Package Specification; ComponentLink3URL: http://cds.linear.com/docs/en/packaging/SOT_8_05-08-1637.pdf
footprint LT-TS8-8-TSOT-23_V (SOT23, 8-Leads, Body 2.9x1.75mm, Pitch 0.65mm)
pins: 1 PFI (in) "Power-Fail Voltage Monitor Input. Input to the powerfail comparator with a 500mV threshold at the falling edge and a 515mV threshold at the rising edge, giving a 3% hysteresis for noise rejection. Tie to V1 or GND if unused.", 2 ADJ (in) "Adjustable Voltage Monitor Input. Input to a voltage monitor comparator with a 0.5V nominal threshold. Tie to V1 if unused.", 3 TMR (in) "Reset Timeout Control. Attach an external capacitor, CTMR, to GND to set a reset timeout period of 9.4ms/nF. A low leakage ceramic capacitor is recommended for timer accuracy. A 2.2nF capacitor generates a 20ms timeout. (See Datasheet)", 4 GND (power) "Device Ground", 5 ~{RST} (out) "Reset Logic Output. This pin asserts low when any of the V1, V2, or ADJ inputs are below their reset thresholds. Pulls high when all the monitored inputs are above their thresholds for longer than a timeout period. This pin (See Datasheet)", 6 ~{PFO} (out) "Power-Fail Logic Output. This pin asserts low when the PFI input voltage is below its threshold and goes high when the PFI input voltage is above its threshold. This pin provides a weak pull-up current to V1. This current is (See Datasheet)", 7 V1 (in) "3.3V Monitor and Power Supply Input. V1 is an accurate 3.3V, -5% undervoltage supply monitor. The internal VCC is generated from the greater of the voltages at the V1 and V2 inputs for the LTC2911-1/LTC2911?2/LTC2911(See Datasheet)", 8 V2 (in) "Voltage Monitor and Power Supply Input. V2 is a -5% undervoltage supply monitor for a 5V, 2.5V, 1.8V or 1.2V supply for the LTC2911-1/LTC2911?2/LTC2911-3/LTC2911?4 options, respectively. Because the internal VCC(See Datasheet)"

## LTC2911ITS8-2#TRMPBF
designator U?
Triple Supply Monitor with Power Fail Comparator, 8-pin SOT23 (TS8-8), -40 to 85 degC, Pb-Free, Mini Tape and Reel; Manufacturer: Linear Technology; PartNumber: LTC2911ITS8-2#TRMPBF; Number of Supplies(#): 3; PackageVersion: Rev. A, 08/2010; PackageReference: TS8-8; PackageDescription: 8-Pin Plastic TSOT-23, Body 2.9 x 1.63 mm, Pitch 0.65 mm; Supplier 1: Digi-Key; Supplier Part Number 1: LTC2911ITS8-2#TRMPBF-ND; Packing: Mini Tape and Reel; RoHS: TRUE; Mounting Technology: Surface Mount; Code_JEDEC: MO-193; ComponentLink1Description: Manufacturer URL; ComponentLink1URL: http://www.linear.com/; ComponentLink2Description: Datasheet; ComponentLink2URL: http://cds.linear.com/docs/en/datasheet/2911f.pdf; ComponentLink3Description: Package Specification; ComponentLink3URL: http://cds.linear.com/docs/en/packaging/SOT_8_05-08-1637.pdf
footprint LT-TS8-8-TSOT-23_V (SOT23, 8-Leads, Body 2.9x1.75mm, Pitch 0.65mm)
pins: 1 PFI (in) "Power-Fail Voltage Monitor Input. Input to the powerfail comparator with a 500mV threshold at the falling edge and a 515mV threshold at the rising edge, giving a 3% hysteresis for noise rejection. Tie to V1 or GND if unused.", 2 ADJ (in) "Adjustable Voltage Monitor Input. Input to a voltage monitor comparator with a 0.5V nominal threshold. Tie to V1 if unused.", 3 TMR (in) "Reset Timeout Control. Attach an external capacitor, CTMR, to GND to set a reset timeout period of 9.4ms/nF. A low leakage ceramic capacitor is recommended for timer accuracy. A 2.2nF capacitor generates a 20ms timeout. (See Datasheet)", 4 GND (power) "Device Ground.", 5 ~{RST} (out) "Reset Logic Output. This pin asserts low when any of the V1, V2, or ADJ inputs are below their reset thresholds. Pulls high when all the monitored inputs are above their thresholds for longer than a timeout period. This pin (See Datasheet)", 6 ~{PFO} (out) "Power-Fail Logic Output. This pin asserts low when the PFI input voltage is below its threshold and goes high when the PFI input voltage is above its threshold. This pin provides a weak pull-up current to V1. This current is (See Datasheet)", 7 V1 (in) "3.3V Monitor and Power Supply Input. V1 is an accurate 3.3V, -5% undervoltage supply monitor. The internal VCC is generated from the greater of the voltages at the V1 and V2 inputs for the LTC2911 1/LTC2911?2/LTC2911- (See Datasheet)", 8 V2 (in) "Voltage Monitor and Power Supply Input. V2 is a -5% undervoltage supply monitor for a 5V, 2.5V, 1.8V or 1.2V supply for the LTC2911-1/LTC2911?2/LTC2911- 3/LTC2911?4 options, respectively. Because the internal VCC is (See Datasheet)"

## LTC2911ITS8-2#TRPBF
designator U?
Triple Supply Monitor with Power Fail Comparator, 8-pin SOT23 (TS8-8), -40 to 85 degC, Pb-Free, Tape and Reel; Manufacturer: Linear Technology; PartNumber: LTC2911ITS8-2#TRPBF; Number of Supplies(#): 3; PackageVersion: Rev. A, 08/2010; PackageReference: TS8-8; PackageDescription: 8-Pin Plastic TSOT-23, Body 2.9 x 1.63 mm, Pitch 0.65 mm; Supplier 1: Digi-Key; Supplier Part Number 1: LTC2911ITS8-2#TRPBF-ND; Packing: Tape and Reel; RoHS: TRUE; Mounting Technology: Surface Mount; Code_JEDEC: MO-193; ComponentLink1Description: Manufacturer URL; ComponentLink1URL: http://www.linear.com/; ComponentLink2Description: Datasheet; ComponentLink2URL: http://cds.linear.com/docs/en/datasheet/2911f.pdf; ComponentLink3Description: Package Specification; ComponentLink3URL: http://cds.linear.com/docs/en/packaging/SOT_8_05-08-1637.pdf
footprint LT-TS8-8-TSOT-23_V (SOT23, 8-Leads, Body 2.9x1.75mm, Pitch 0.65mm)
pins: 1 PFI (in) "Power-Fail Voltage Monitor Input. Input to the powerfail comparator with a 500mV threshold at the falling edge and a 515mV threshold at the rising edge, giving a 3% hysteresis for noise rejection. Tie to V1 or GND if unused.", 2 ADJ (in) "Adjustable Voltage Monitor Input. Input to a voltage monitor comparator with a 0.5V nominal threshold. Tie to V1 if unused.", 3 TMR (in) "Reset Timeout Control. Attach an external capacitor, CTMR, to GND to set a reset timeout period of 9.4ms/nF. A low leakage ceramic capacitor is recommended for timer accuracy. A 2.2nF capacitor generates a 20ms timeout. (See Datasheet)", 4 GND (power) "Device Ground.", 5 ~{RST} (out) "Reset Logic Output. This pin asserts low when any of the V1, V2, or ADJ inputs are below their reset thresholds. Pulls high when all the monitored inputs are above their thresholds for longer than a timeout period. This pin (See Datasheet)", 6 ~{PFO} (out) "Power-Fail Logic Output. This pin asserts low when the PFI input voltage is below its threshold and goes high when the PFI input voltage is above its threshold. This pin provides a weak pull-up current to V1. This current is (See Datasheet)", 7 V1 (in) "3.3V Monitor and Power Supply Input. V1 is an accurate 3.3V, -5% undervoltage supply monitor. The internal VCC is generated from the greater of the voltages at the V1 and V2 inputs for the LTC2911 1/LTC2911?2/LTC2911- (See Datasheet)", 8 V2 (in) "Voltage Monitor and Power Supply Input. V2 is a -5% undervoltage supply monitor for a 5V, 2.5V, 1.8V or 1.2V supply for the LTC2911-1/LTC2911?2/LTC2911- 3/LTC2911?4 options, respectively. Because the internal VCC is (See Datasheet)"